# Altium footprint library HDRV20W66P254_10X2_2540X508H830.PcbLib: 1 footprints
Each footprint in its own frame and in the unit in brackets; x right, y up, seen from the top. Pads: shape width x height; smd on the part's side, far side on the other; paste and mask are expansions set on the pad; w line width, h text height; cw(c..) or ccw(c..) is an arc to the next point about the centre after c.
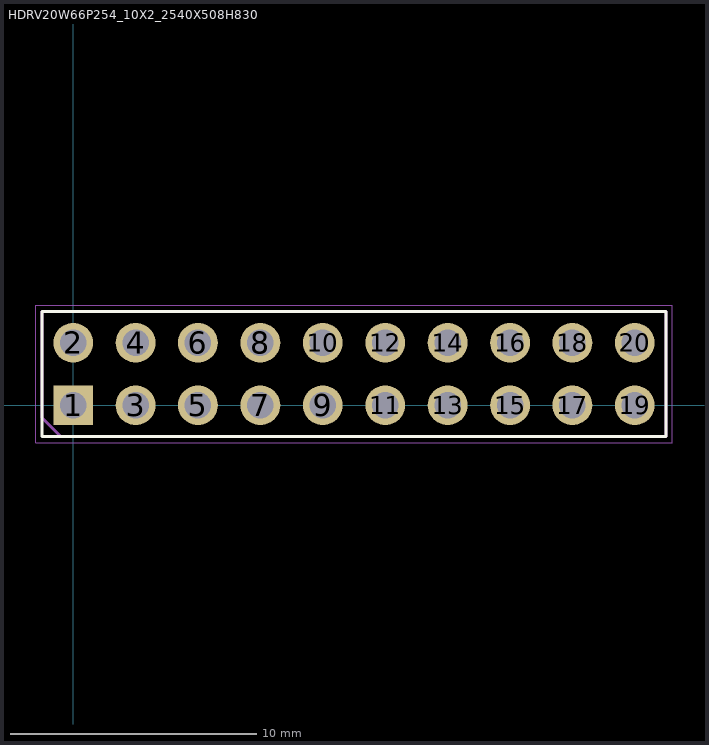
[diagram p0: the footprint, top view; thin cyan lines are the x and y axes]

## HDRV20W66P254_10X2_2540X508H830 [mm] "Header, Vertical, 2.54 mm pitch; 0.66 mm lead width, 20 pins, 2 rows, 10 pins per row, 25.40 mm L X 5.08 mm W X 8.30 mm H body"
height 8.3
pads (20):
  rect 1.62x1.62 / inner round 1.62 / far side rect 1.62x1.62 hole 1.08 paste-1.62: 1(0,0)
  round 1.62 hole 1.08 paste-1.62: 2(0,2.54) 3(2.54,0) 4(2.54,2.54) 5(5.08,0) 6(5.08,2.54) 7(7.62,0) 8(7.62,2.54) 9(10.16,0) 10(10.16,2.54) 11(12.7,0) 12(12.7,2.54) 13(15.24,0) 14(15.24,2.54) 15(17.78,0) 16(17.78,2.54) 17(20.32,0) 18(20.32,2.54) 19(22.86,0) 20(22.86,2.54)
Top Overlay:
  lines w0.12: -1.27,-1.27 24.13,-1.27 24.13,3.81 -1.27,3.81 -1.27,-1.27
Mechanical 3:
  lines w0.12: -1.27,-0.508 -1.27,3.81 24.13,3.81 24.13,-1.27 -0.508,-1.27 -1.27,-0.508
Mechanical 5:
  lines w0.025: -1.27,-1.27 24.13,-1.27 24.13,3.81 -1.27,3.81 -1.27,-1.27 ; -0.33,-0.33 0.33,-0.33 0.33,0.33 -0.33,0.33 -0.33,-0.33 ; -0.33,2.21 0.33,2.21 0.33,2.87 -0.33,2.87 -0.33,2.21 ; 2.21,-0.33 2.87,-0.33 2.87,0.33 2.21,0.33 2.21,-0.33 ; 2.21,2.21 2.87,2.21 2.87,2.87 2.21,2.87 2.21,2.21 ; 4.75,-0.33 5.41,-0.33 5.41,0.33 4.75,0.33 4.75,-0.33 ; 4.75,2.21 5.41,2.21 5.41,2.87 4.75,2.87 4.75,2.21 ; 7.29,-0.33 7.95,-0.33 7.95,0.33 7.29,0.33 7.29,-0.33 ; 7.29,2.21 7.95,2.21 7.95,2.87 7.29,2.87 7.29,2.21 ; 9.83,-0.33 10.49,-0.33 10.49,0.33 9.83,0.33 9.83,-0.33 ; 9.83,2.21 10.49,2.21 10.49,2.87 9.83,2.87 9.83,2.21 ; 12.37,-0.33 13.03,-0.33 13.03,0.33 12.37,0.33 12.37,-0.33 ; 12.37,2.21 13.03,2.21 13.03,2.87 12.37,2.87 12.37,2.21 ; 14.91,-0.33 15.57,-0.33 15.57,0.33 14.91,0.33 14.91,-0.33 ; 14.91,2.21 15.57,2.21 15.57,2.87 14.91,2.87 14.91,2.21 ; 17.45,-0.33 18.11,-0.33 18.11,0.33 17.45,0.33 17.45,-0.33 ; 17.45,2.21 18.11,2.21 18.11,2.87 17.45,2.87 17.45,2.21 ; 19.99,-0.33 20.65,-0.33 20.65,0.33 19.99,0.33 19.99,-0.33 ; 19.99,2.21 20.65,2.21 20.65,2.87 19.99,2.87 19.99,2.21 ; 22.53,-0.33 23.19,-0.33 23.19,0.33 22.53,0.33 22.53,-0.33 ; 22.53,2.21 23.19,2.21 23.19,2.87 22.53,2.87 22.53,2.21
Mechanical 7:
  circle w0.05: c0,0 r0.25
  lines w0.05: -0.35,0 0.35,0 ; 0,-0.35 0,0.35 ; -1.52,-1.52 24.38,-1.52 24.38,4.06 -1.52,4.06 -1.52,-1.52
Mechanical 9:
  text "'.Designator'" at 5.994,-3.319 h1.02
3D body "HDRV20W66P254_10X2_2540X508H830.STEP": height 8.3, standoff -2, extent -1.27,-1.27 24.13,3.81
3D body: height 1.04, standoff 0, extent -1.52,-1.52 24.38,4.06